# Altium schematic symbol library test.SchLib: 1 symbol
Pins are listed as number, name and electrical type; pins without a type are passive.

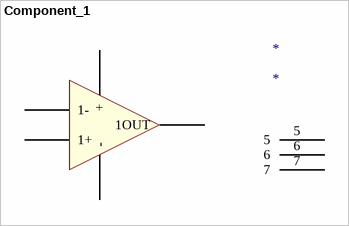
[diagram p0: symbol Component_1]

## Component_1
designator *
pins: 1 1OUT, 2 1-, 3 1+, 4 -, 5, 6, 7, 8 +